# Altium footprint library CON 43650.PcbLib: 1 footprints
Each footprint in its own frame and in the unit in brackets; x right, y up, seen from the top. Pads: shape width x height; smd on the part's side, far side on the other; paste and mask are expansions set on the pad; w line width, h text height; cw(c..) or ccw(c..) is an arc to the next point about the centre after c.
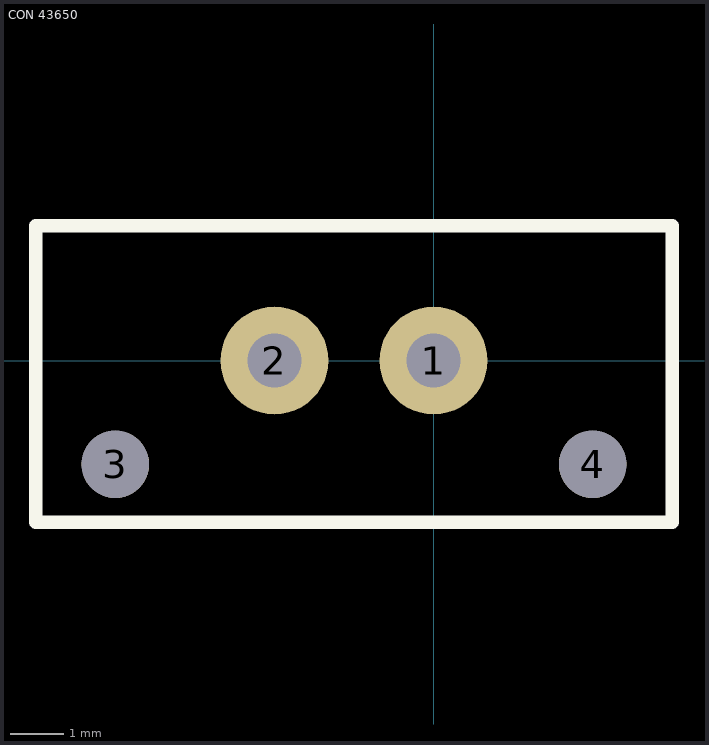
[diagram p0: the footprint, top view; thin cyan lines are the x and y axes]

## CON 43650 [mil]
pads (4):
  round 80 hole 40: 1(0,0) 2(-118,0)
  round 50 hole 50 unplated: 3(-236,-77) 4(118,-77)
Top Overlay:
  lines w10: -295,-120 -295,100 177,100 177,-120 -295,-120
  text "." at -3,116 h50
Mechanical 4:
  text ".484" at 0,0 h1
3D body: height 394.88, standoff -120.08, extent -247.92,-99.65 132,119.65